# Altium schematic symbol library ST25RU3993_RF_MODULE.SCHLIB: 256 symbols (part 8 of 8)
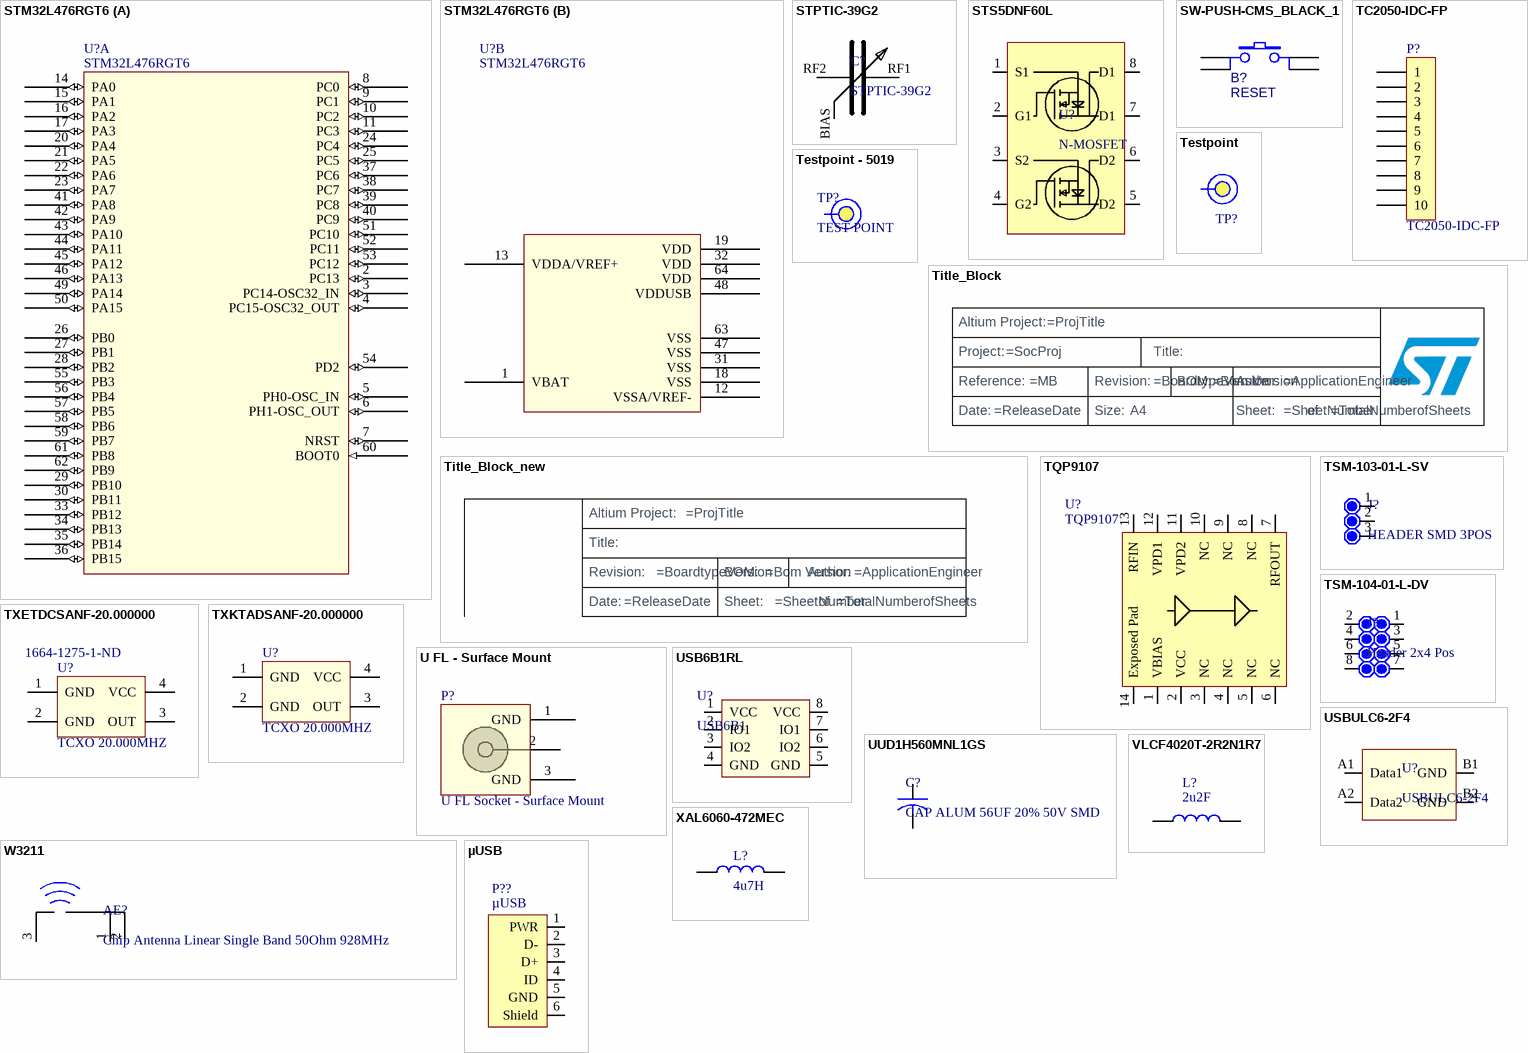
[diagram p13: symbols STM32L476RGT6 to µUSB]

## Title_Block
designator TitleBlock?  (value not drawn)  (no BOM)
Manufacturer: Yageo; Manufacturer Part Number: RC0402FR-0762RL; Tolerance: ±1%; Power (Watts): 0.063W, 1/16W; Temperature Coefficient: ±100ppm/°C; Supplier 1: Digi-Key; Supplier Part Number 1: 311-62.0LRCT-ND; RoHS: RoHS Compliant; Category: Resistors; Stock: 191216; Pricing: 1=0.08, 10=0.012, 100=0.0048, 1000=0.00215, 2500=0.00186, 5000=0.00154 (EUR); Packaging: Cut Tape (CT); Part Status: Active; Composition: Thick Film; Features: Moisture Resistant; Operating Temperature: -55°C ~ 155°C; Package / Case: 0402 (1005 Metric); Supplier Device Package: 0402; Size / Dimension: 0.039" L x 0.020" W (1.00mm x 0.50mm); Height - Seated (Max): 0.016" (0.40mm); Failure Rate: -; ComponentLink1URL: http://www.yageo.com/documents/recent/PYu-RC_Group_51_RoHS_L_7.pdf; ComponentLink1Description: http://www.yageo.com/documents/recent/PYu-RC_Group_51_RoHS_L_7.pdf
text: Altium Project:; Project:; Title:; Reference:; Revision:; BOM:; Author:; Date:; Size:; A4; Sheet:; of

## Title_Block_new
designator TitleBlock??, comment Title_Block  (value not drawn)  (graphical)
Manufacturer: Yageo; Manufacturer Part Number: RC0402FR-0762RL; Tolerance: ±1%; Power (Watts): 0.063W, 1/16W; Temperature Coefficient: ±100ppm/°C; Supplier 1: Digi-Key; Supplier Part Number 1: 311-62.0LRCT-ND; RoHS: RoHS Compliant; Category: Resistors; Stock: 191216; Pricing: 1=0.08, 10=0.012, 100=0.0048, 1000=0.00215, 2500=0.00186, 5000=0.00154 (EUR); Packaging: Cut Tape (CT); Part Status: Active; Composition: Thick Film; Features: Moisture Resistant; Operating Temperature: -55°C ~ 155°C; Package / Case: 0402 (1005 Metric); Supplier Device Package: 0402; Size / Dimension: 0.039" L x 0.020" W (1.00mm x 0.50mm); Height - Seated (Max): 0.016" (0.40mm); Failure Rate: -; ComponentLink1URL: http://www.yageo.com/documents/recent/PYu-RC_Group_51_RoHS_L_7.pdf; ComponentLink1Description: http://www.yageo.com/documents/recent/PYu-RC_Group_51_RoHS_L_7.pdf
text: Altium Project:; Title:; Revision:; BOM:; Author:; Date:; Sheet:; of

## TQP9107
designator U?
699 – 960 MHz 2-stage Power Amplifier; Manufacturer: Qorvo; Supplier 1: Mouser; Supplier Part Number 1: 772-TQP9107; Manufacturer Part Number: TQP9107; Stock: 1110; Pricing: 10000=3.63 (USD)
footprint TQP9107 (699 – 960 MHz 2-stage Power Amplifier)
pins: 1 VBIAS, 2 VCC, 3 NC, 4 NC, 5 NC, 6 NC, 7 RFOUT, 8 NC, 9 NC, 10 NC, 11 VPD2, 12 VPD1, 13 RFIN, 14 Exposed Pad

## TSM-103-01-L-SV
designator J?, comment HEADER SMD 3POS
TSM - Samtec 2.54mm Single Row Vertical Surface Mount Header 5.84mm Post Height; Manufacturer Part Number: TSM-103-01-L-SV; Gender: Male; Number of Contacts: 3; Supplier 1: Digi-Key; Supplier Part Number 1: SAM8981-ND; Manufacturer: Samtec; Stock: 14626; Pricing: 1 = 0.44000, 10 = 0.41700, 100 = 0.31970, 500 = 0.27800, 1000 = 0.22935, 5000 = 0.20155, 10000 = 0.18765 (USD); Contact Material: Bronze; Contact Plating: Gold; Number of Rows: 1; REACH SVHC: No SVHC; Lead Free: Lead Free; ComponentLink1URL: http://datasheet.octopart.com/TSM-103-01-L-SV-Samtec-datasheet-97319594.pdf; ComponentLink1Description: http://datasheet.octopart.com/TSM-103-01-L-SV-Samtec-datasheet-97319594.pdf; ComponentLink2URL: http://sigma.octopart.com/97319600/technical_drawing/Samtec-TSM-103-01-L-SV.pdf; ComponentLink2Description: http://sigma.octopart.com/97319600/technical_drawing/Samtec-TSM-103-01-L-SV.pdf; ComponentLink3URL: http://datasheet.octopart.com/TSM-103-01-L-SV-Samtec-datasheet-68527555.pdf; ComponentLink3Description: http://datasheet.octopart.com/TSM-103-01-L-SV-Samtec-datasheet-68527555.pdf; ComponentLink4URL: http://datasheet.octopart.com/TSM-103-01-L-SV-Samtec-datasheet-41643181.pdf; ComponentLink4Description: http://datasheet.octopart.com/TSM-103-01-L-SV-Samtec-datasheet-41643181.pdf; ComponentLink5URL: http://datasheet.octopart.com/TSM-103-01-L-SV-Samtec-datasheet-11542650.pdf; ComponentLink5Description: http://datasheet.octopart.com/TSM-103-01-L-SV-Samtec-datasheet-11542650.pdf; ComponentLink6URL: http://datasheet.octopart.com/TSM-103-01-L-SV-Samtec-datasheet-21214708.pdf; ComponentLink6Description: http://datasheet.octopart.com/TSM-103-01-L-SV-Samtec-datasheet-21214708.pdf; ComponentLink7URL: http://datasheet.octopart.com/TSM-103-01-L-SV-Samtec-datasheet-62282259.pdf; ComponentLink7Description: http://datasheet.octopart.com/TSM-103-01-L-SV-Samtec-datasheet-62282259.pdf; ComponentLink8URL: http://datasheet.octopart.com/TSM-103-01-L-SV.-Samtec-datasheet-31667586.pdf; ComponentLink8Description: http://datasheet.octopart.com/TSM-103-01-L-SV.-Samtec-datasheet-31667586.pdf
footprint SAMTEC-TSM-103-01-X-SV (CONN HEADER SMD 3POS 2.54MM)
footprint SAMTEC-TSM-103-01-X-SV (CONN HEADER SMD 3POS 2.54MM)
pins: 1, 2, 3

## TSM-104-01-L-DV
designator J?, comment Header 2x4 Pos
TSM - Samtec 2.54mm Dual Row Vertical Surface Mount Header 5.84mm Post Height; Manufacturer Part Number: TSM-104-01-L-DV; Gender: Male; Number of Contacts: 8; Current Rating: 7A; Voltage Rating: 475V; Supplier 1: Digi-Key; Supplier Part Number 1: SAM10792-ND; Manufacturer: Samtec; Stock: 4920; Pricing: 1 = 0.94000, 57 = 0.74298, 114 = 0.71061, 513 = 0.58140, 1026 = 0.51680, 5016 = 0.45220, 10032 = 0.42959 (USD); Contact Material: Bronze; Contact Plating: Gold; Number of Rows: 2; Termination: Solder; Orientation: Straight; Pitch: 2.54mm; REACH SVHC: No SVHC; Lead Free: Lead Free; ComponentLink1URL: http://datasheet.octopart.com/TSM-104-01-L-DV-Samtec-datasheet-97319594.pdf; ComponentLink1Description: http://datasheet.octopart.com/TSM-104-01-L-DV-Samtec-datasheet-97319594.pdf; ComponentLink2URL: http://sigma.octopart.com/97319595/technical_drawing/Samtec-TSM-104-01-L-DV.pdf; ComponentLink2Description: http://sigma.octopart.com/97319595/technical_drawing/Samtec-TSM-104-01-L-DV.pdf; ComponentLink3URL: http://datasheet.octopart.com/TSM-104-01-L-DV-Samtec-datasheet-68527555.pdf; ComponentLink3Description: http://datasheet.octopart.com/TSM-104-01-L-DV-Samtec-datasheet-68527555.pdf; ComponentLink4URL: http://datasheet.octopart.com/TSM-104-01-L-DV-Samtec-datasheet-41643181.pdf; ComponentLink4Description: http://datasheet.octopart.com/TSM-104-01-L-DV-Samtec-datasheet-41643181.pdf; ComponentLink5URL: http://datasheet.octopart.com/TSM-104-01-L-DV-Samtec-datasheet-10038099.pdf; ComponentLink5Description: http://datasheet.octopart.com/TSM-104-01-L-DV-Samtec-datasheet-10038099.pdf; ComponentLink6URL: http://datasheet.octopart.com/TSM-104-01-L-DV-Samtec-datasheet-11542650.pdf; ComponentLink6Description: http://datasheet.octopart.com/TSM-104-01-L-DV-Samtec-datasheet-11542650.pdf; ComponentLink7URL: http://datasheet.octopart.com/TSM-104-01-L-DV-Samtec-datasheet-21214708.pdf; ComponentLink7Description: http://datasheet.octopart.com/TSM-104-01-L-DV-Samtec-datasheet-21214708.pdf; ComponentLink8URL: http://datasheet.octopart.com/TSM-104-01-L-DV-Samtec-datasheet-14716487.pdf; ComponentLink8Description: http://datasheet.octopart.com/TSM-104-01-L-DV-Samtec-datasheet-14716487.pdf; ComponentLink9URL: http://datasheet.octopart.com/TSM-104-01-L-DV-Samtec-datasheet-31667586.pdf; ComponentLink9Description: http://datasheet.octopart.com/TSM-104-01-L-DV-Samtec-datasheet-31667586.pdf; ComponentLink10URL: http://datasheet.octopart.com/TSM-104-01-L-DV-Samtec-datasheet-62282259.pdf; ComponentLink10Description: http://datasheet.octopart.com/TSM-104-01-L-DV-Samtec-datasheet-62282259.pdf
footprint SAMTEC-TSM-104-01-X-DV (CONN HEADER SMD 8POS 2.54MM)
pins: 1, 2, 3, 4, 5, 6, 7, 8

## TXETDCSANF-20.000000
designator U?, comment TCXO 20.000MHZ  Supplier Part Number 1: 1664-1275-1-ND
OSC TCXO 20.0000MHZ CLP SW SMD; Manufacturer: Taitien; Manufacturer Part Number: TXETDCSANF-20.000000; Output: Clipped Sine Wave; Voltage - Supply: 2.8 V ~ 3.3 V; Frequency Stability: ±2.5ppm; Current - Supply (Max): 2mA; Supplier 1: Digi-Key; RoHS: RoHS Compliant; Category: Crystals, Oscillators, Resonators; Stock: 500; Pricing 1: 1=1.98, 10=1.932, 50=1.8404, 100=1.6104, 500=1.5644 (EUR); Packaging: Cut Tape (CT); Part Status: Active; Type: TCXO; Function: -; Operating Temperature: -20°C ~ 70°C; Ratings: -; Mounting Type: Surface Mount; Package / Case: 4-SMD, No Lead; Size / Dimension: 0.126" L x 0.098" W (3.20mm x 2.50mm); Height - Seated (Max): 0.039" (1.00mm); Current - Supply (Disable) (Max): -; ComponentLink1URL: http://www.taitien.com/wp-content/uploads/2015/12/XO-0076_TX.pdf; ComponentLink1Description: http://www.taitien.com/wp-content/uploads/2015/12/XO-0076_TX.pdf
footprint 3.2 x 2.5 mm SMD (Temperature Compensated Crystal Oscillator)
footprint 3.2 x 2.5 mm SMD (Temperature Compensated Crystal Oscillator)
pins: 1 GND, 2 GND, 3 OUT, 4 VCC

## TXKTADSANF-20.000000
designator U?, comment TCXO 20.000MHZ
OSC TCXO 20.000MHZ CLPD SNWV SMD; Manufacturer: Taitien; Manufacturer Part Number: TXKTADSANF-20.000000; Output: Clipped Sine Wave; Voltage - Supply: 1.8 V; Frequency Stability: ±500ppb; Current - Supply (Max): 2mA; Supplier 1: Acal BFI; Supplier Part Number 1: TXKTADSANF-20.000000; RoHS: RoHS Compliant; Category: Crystals, Oscillators, Resonators; Stock: 0; Packaging: Cut Tape (CT); Part Status: Active; Type: VCTCXO; Function: -; Absolute Pull Range (APR): -; Operating Temperature: -30°C ~ 85°C; Ratings: -; Mounting Type: Surface Mount; Package / Case: 4-SMD, No Lead; Size / Dimension: 0.126" L x 0.098" W (3.20mm x 2.50mm); Height - Seated (Max): 0.039" (1.00mm); Current - Supply (Disable) (Max): -; ComponentLink1URL: http://www.taitien.com/wp-content/uploads/2015/12/XO-0076_TX.pdf; ComponentLink1Description: http://www.taitien.com/wp-content/uploads/2015/12/XO-0076_TX.pdf
footprint 7Q-20.000MCN-T (XC  7Q-20.000MCN-T  TCXO, 20MHZ, 3.2 X 2.5MM, CLIPPED SINE)
footprint 7Q-20.000MCN-T (Temperature Compensated Crystal Oscillator)
pins: 1 GND, 2 GND, 3 OUT, 4 VCC

## U FL - Surface Mount
designator P?, comment U FL Socket - Surface Mount
footprint U FL Socket - HRS - Surface Mount
pins: 1 GND, 2 Signal, 3 GND

## USB6B1RL
designator U?, comment USB6B1
TVS DIODE 5.25VWM 8SOIC; Manufacturer: STMicroelectronics; Manufacturer Part Number: USB6B1RL; Voltage - Reverse Standoff (Typ): 5.25V; Voltage - Breakdown (Min): 6V; Power - Peak Pulse: 500W; Power Line Protection: Yes; Supplier 1: Digi-Key; RoHS: RoHS Compliant; Category: Circuit Protection; Stock: 17510; Pricing 1: 1=0.97, 10=0.867, 100=0.6756, 500=0.55814, 1000=0.44063 (EUR); Packaging: Cut Tape (CT); Part Status: Active; Type: Steering (Rail to Rail); Voltage - Clamping (Max) @ Ipp: -; Current - Peak Pulse (10/1000µs): -; Applications: General Purpose; Capacitance @ Frequency: -; Operating Temperature: -40°C ~ 85°C (TA); Mounting Type: Surface Mount; Package / Case: 8-SOIC (0.154", 3.90mm Width); Supplier Device Package: 8-SO; ComponentLink1URL: http://www.st.com/content/ccc/resource/technical/document/datasheet/3e/ec/b2/54/b2/76/47/90/CD00001361.pdf/files/CD00001361.pdf/jcr:content/translations/en.CD00001361.pdf; ComponentLink1Description: http://www.st.com/content/ccc/resource/technical/document/datasheet/3e/ec/b2/54/b2/76/47/90/CD00001361.pdf/files/CD00001361.pdf/jcr:content/translations/en.CD00001361.pdf; Supplier Part Number 1: 497-3281-1-ND
footprint SO-8 (SOP, 8-Leads, Body 4,90x3,90mm, Pitch 1,27mm, IPC Medium Density)
pins: 1 VCC, 2 IO1, 3 IO2, 4 GND, 5 GND, 6 IO2, 7 IO1, 8 VCC

## USBULC6-2F4
designator U?
PROTECTION; Manufacturer: STMicroelectronics; Supplier 1: Mouser; Supplier Part Number 1: 511-USBULC6-2F4; Manufacturer Part Number: USBULC6-2F4; Stock: 0; Pricing: 1=0.44, 10=0.282, 50=0.282, 100=0.121, 1000=0.093, 10000=0.063 (USD)
footprint USBULC6-2F4 (2-line, ultralow capacitance protection in 0.3 mm pitch)
pins: A1 Data1, A2 Data2, B1 GND, B2 GND

## UUD1H560MNL1GS
designator C?, comment CAP ALUM 56UF 20% 50V SMD
Manufacturer: Nichicon; Manufacturer Part Number: UUD1H560MNL1GS; Dielectric Material: Aluminium; Ripple Current: 300mA; Impedance: 340mR; Leakage Current: 3uA; Life (Hours): 5000Hour; Dissipation Factor: 0.14%; Supplier 1: Digi-Key; Supplier Part Number 1: 493-2304-2-ND; RoHS: Yes; Stock: 7000; Pricing: 500 = 0.23820, 1000 = 0.20247, 2500 = 0.19056, 5000 = 0.17865, 12500 = 0.16376, 25000 = 0.16079, 50000 = 0.15483 (USD); Case/Package: Radial; Number of Pins: 2; Min Operating Temperature: -55°C; Max Operating Temperature: 105°C; Package Quantity: 500; Tolerance: 20%; Voltage Rating (DC): 50V; Packaging: Tape and Reel; Capacitance: 56uF; Voltage Rating: 50V; Termination: SMD/SMT; Diameter: 8mm; Length: 10mm; Height: 10mm; Height - Seated (Max): 0.394inch; Radiation Hardening: No; Lead Free: Lead Free; ComponentLink1URL: http://www.nichicon.co.jp/english/products/pdfs/e-ch_ref.pdf; ComponentLink1Description: http://www.nichicon.co.jp/english/products/pdfs/e-ch_ref.pdf; ComponentLink2URL: http://nichicon-us.com/english/products/pdfs/e-uud.pdf; ComponentLink2Description: http://nichicon-us.com/english/products/pdfs/e-uud.pdf; ComponentLink3URL: https://www.verical.com/server-webapp/html/getDatasheet?partID=743882; ComponentLink3Description: https://www.verical.com/server-webapp/html/getDatasheet?partID=743882; ComponentLink4URL: http://www.nichicon.co.jp/english/products/pdfs/e-ud.pdf; ComponentLink4Description: http://www.nichicon.co.jp/english/products/pdfs/e-ud.pdf; ComponentLink5URL: http://products.nichicon.co.jp/en/pdf/XJA043/e-ud.pdf; ComponentLink5Description: http://products.nichicon.co.jp/en/pdf/XJA043/e-ud.pdf
footprint UUD1H560MNL1GS (CAP ALUM 56UF 20% 50V SMD)
pins: 1, 2

## VLCF4020T-2R2N1R7
designator L?, comment 2u2F
FIXED IND 2.2UH 1.72A 59 MOHM; Manufacturer 1: TDK Corporation; Manufacturer Part Number 1: VLCF4020T-2R2N1R7; Type: Wirewound; Material - Core: Ferrite; Inductance: 2.2µH; Tolerance: ±30%; Shielding: Shielded; DC Resistance (DCR): 59 mOhm Max; Frequency - Test: 100kHz; Exact Component Match: yes; Supplier 1: Digi-Key; Supplier Part Number 1: 445-3182-1-ND; RoHS: RoHS Compliant; Category: Inductors, Coils, Chokes; Stock 1: 72538; Pricing 1: 1=0.69, 10=0.611, 50=0.4968, 100=0.4584, 500=0.39732 (EUR); Packaging: Cut Tape (CT); Part Status: Active; Current Rating: 1.72A; Current - Saturation: 1.72A; Q @ Freq: -; Frequency - Self Resonant: -; Ratings: -; Operating Temperature: -40°C ~ 105°C; Mounting Type: Surface Mount; Package / Case: Nonstandard; Size / Dimension: 0.157" L x 0.157" W (4.00mm x 4.00mm); Height - Seated (Max): 0.079" (2.00mm); ComponentLink1URL: https://product.tdk.com/info/en/catalog/datasheets/inductor_commercial_power_vlcf4020_en.pdf; ComponentLink1Description: https://product.tdk.com/info/en/catalog/datasheets/inductor_commercial_power_vlcf4020_en.pdf; Manufacturer: TDK Corporation; Manufacturer Part Number: VLCF4020T-2R2N1R7
footprint L_LPS4012 (Chip Inductor, 2-Leads, Body 4.0x4.0mm)
pins: 1, 2

## W3211
designator AE?, comment Chip Antenna Linear Single Band 50Ohm 928MHz
Chip Antenna Linear Single Band 50Ohm 928MHz 1.35dBi SMD T/R; Manufacturer: Pulse; Manufacturer Part Number: W3211; Supplier 1: Farnell; Supplier Part Number 1: 2989817; Pricing: 1 = 2.04000, 10 = 1.84000, 25 = 1.64000, 100 = 1.48000, 250 = 1.32000, 500 = 1.15000 (CHF)
footprint W3211 (902-928MHz Ceramic On Ground Antenna)
pins: 1, 2, 3

## XAL6060-472MEC
designator L?, comment 4u7H
Fixed Inductors XAL6060 High Current 4.7 uH 20 % 11 A; Manufacturer: Coilcraft; Manufacturer Part Number: XAL6060-472MEC; Core Material: Composite; Self Resonant Frequency: 21MHz; Tolerance: 20%; Shielding: Shielded; Inductance: 4.7uh; Max DC Current: 11A; DC Resistance (DCR): 14.4mR; Test Frequency: 100kHz; Saturation Current: 10.5A; Supplier 1: Farnell; Supplier Part Number 1: 2289085; RoHS: Yes; Stock: 3091; Pricing: 1 = 3.01000, 100 = 2.63000, 250 = 2.05000 (CHF); Mount: Surface Mount; Case/Package: SMD/SMT; Min Operating Temperature: -40°C; Max Operating Temperature: 125°C; Packaging: Tape and Reel; Package Quantity: 250; Termination: SMD/SMT; Inductance Tolerance: 20%; RMS Current (Irms): 11A; Length: 6.76mm; Height: 6.1mm; Width: 6.56mm; Lead Free: Contains Lead; REACH SVHC: Unknown; ComponentLink1URL: http://www.farnell.com/datasheets/1681993.pdf; ComponentLink1Description: http://www.farnell.com/datasheets/1681993.pdf
footprint XAL6060-472MEC (4.7 ?H, Isat = 10.5 A, Irms = 8 A)
pins: 1, 2

## µUSB
designator P??
Micro USB Connector; Manufacturer: Molex, LLC; Manufacturer Part Number: 1050170001; Connector Type: USB - micro B; Number of Contacts: 5; Gender: Receptacle; Specifications: USB 2.0; Number of Ports: 1; Current Rating: 1A, 1.8A; Voltage - Rated: 30VAC; Mating Cycles: 10000; Shielding: Shielded; Material Flammability Rating: UL94 V-0; Supplier 1: Digi-Key; RoHS: RoHS Compliant; Category: Connectors, Interconnects; Stock: 30377; Pricing 1: 1=0.82, 10=0.72, 25=0.6776, 50=0.6496, 100=0.6213, 250=0.56488, 500=0.5084, 1000=0.45191 (EUR); Packaging: Cut Tape (CT); Part Status: Active; Mounting Type: Surface Mount, Right Angle; Mounting Feature: Horizontal; Termination: Solder; Features: Pick and Place, Solder Retention; Ingress Protection: -; Operating Temperature: -30°C ~ 85°C; Contact Finish: Gold; Shell/Shielding Material: Steel, Stainless; Insulation Color: Black; ComponentLink1URL: http://www.molex.com/pdm_docs/sd/1050170001_sd.pdf; ComponentLink1Description: http://www.molex.com/pdm_docs/sd/1050170001_sd.pdf; Supplier Part Number 1: WM1399CT-ND
footprint µUSB Molex (105017)
pins: 1 PWR, 2 D-, 3 D+, 4 ID, 5 GND, 6 Shield